# Altium footprint library BC547.PcbLib: 1 footprints
Each footprint in its own frame and in the unit in brackets; x right, y up, seen from the top. Pads: shape width x height; smd on the part's side, far side on the other; paste and mask are expansions set on the pad; w line width, h text height; cw(c..) or ccw(c..) is an arc to the next point about the centre after c.
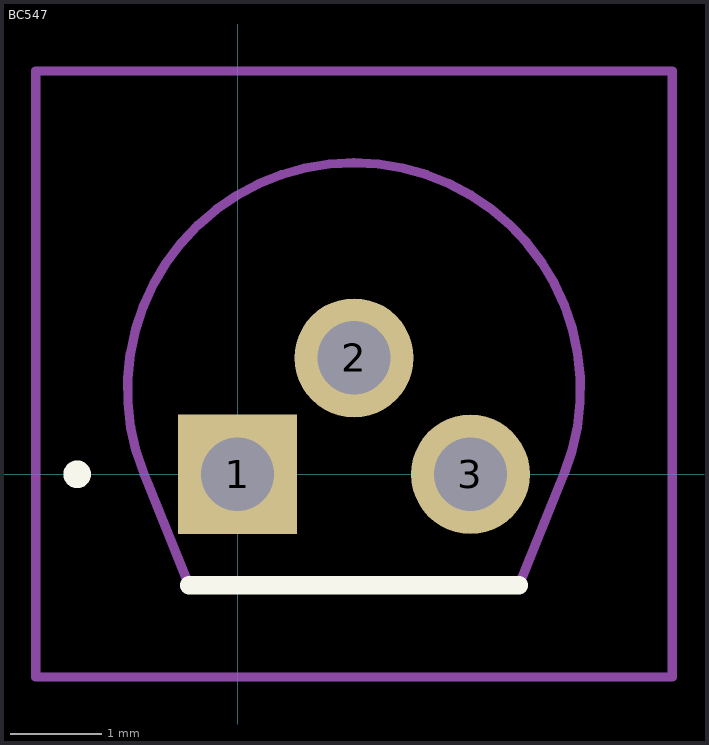
[diagram p0: the footprint, top view; thin cyan lines are the x and y axes]

## BC547 [mm]
pads (3):
  rect 1.3x1.3 hole 0.8: 1(0,0)
  round 1.3 hole 0.8: 2(1.27,1.27) 3(2.54,0)
Top Overlay:
  lines w0.2: -0.53,-1.21 3.07,-1.21 ; -1.8,0 -1.8,0 ; -1.8,0 ccw(c-1.75,0) -1.7,0 ; -1.8,0 cw(c-1.75,0) -1.7,0 ; -1.8,0 -1.8,0 ; -1.8,0 ccw(c-1.75,0) -1.7,0 ; -1.7,0 -1.7,0
Mechanical 15:
  lines w0.1: -1.019,-0.002 cw(c1.27,0.927) 3.561,0.002 ; -1.02,0 -0.53,-1.21 3.07,-1.21 3.56,0 ; 3.56,0 3.56,0
Mechanical 20:
  lines w0.1: -2.201,-2.21 4.741,-2.21 4.741,4.398 -2.201,4.398 -2.201,-2.21